# Altium footprint library HCPL-3120.PcbLib: 2 footprints
Each footprint in its own frame and in the unit in brackets; x right, y up, seen from the top. Pads: shape width x height; smd on the part's side, far side on the other; paste and mask are expansions set on the pad; w line width, h text height; cw(c..) or ccw(c..) is an arc to the next point about the centre after c.
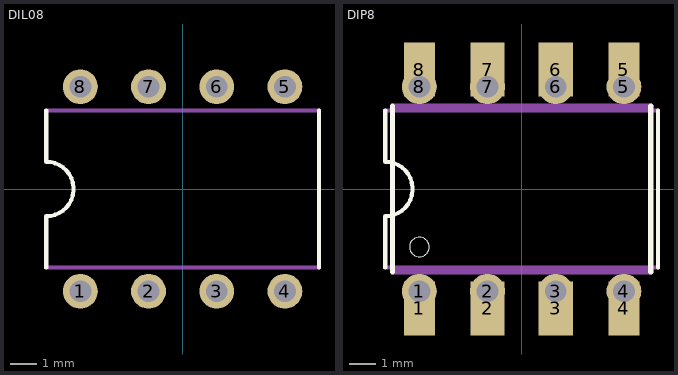
[diagram p0: the footprints below, top view; thin cyan lines are the x and y axes]

## DIL08 [mm]
pads (8):
  round 1.3 hole 0.813: 1(-3.81,-3.81) 2(-1.27,-3.81) 3(1.27,-3.81) 4(3.81,-3.81) 5(3.81,3.81) 6(1.27,3.81) 7(-1.27,3.81) 8(-3.81,3.81)
Top Overlay:
  lines w0.152: -5.08,-2.921 -5.08,-1.016 ccw(c-5.08,0) -5.08,1.016 -5.08,2.921 ; 5.08,-2.921 5.08,2.921
Mechanical 13:
  lines w0.152: -5.08,-2.921 5.08,-2.921 ; -5.08,2.921 5.08,2.921
3D body "step_temp.STEP": height 4.96, standoff -2.95, extent -3.81,-4.885 3.81,4.885

## DIP8 [mm]
pads (16):
  rect 1.16x2 smd: 1(-3.81,-4.45) 4(3.81,-4.45) 5(3.81,4.45) 8(-3.81,4.45)
  round 1.3 hole 0.813: 1(-3.81,-3.81) 2(-1.27,-3.81) 3(1.27,-3.81) 4(3.81,-3.81) 5(3.81,3.81) 6(1.27,3.81) 7(-1.27,3.81) 8(-3.81,3.81)
  rect 1.27x2 smd: 2(-1.27,-4.45) 3(1.27,-4.45) 6(1.27,4.45) 7(-1.27,4.45)
Top Overlay:
  circle w0: c-3.81,-2.159 r0.367
  lines w0.152: -5.08,-2.921 -5.08,-1.016 ccw(c-5.08,0) -5.08,1.016 -5.08,2.921 ; 5.08,-2.921 5.08,2.921
  lines w0.203: -4.81,-3.075 -4.81,3.075 ; 4.81,-3.075 4.81,3.075
Mechanical 13:
  lines w0.152: -5.08,-2.921 5.08,-2.921 ; -5.08,2.921 5.08,2.921
  lines w0.203: -4.81,-3.075 4.81,-3.075 ; -4.81,3.075 4.81,3.075
3D body "step_temp.STEP": height 4.96, standoff -2.95, extent -3.81,-4.885 3.81,4.885
3D body "step_temp.STEP": height 4.96, standoff -2.95, extent -3.81,-4.885 3.81,4.885